# EAGLE library part HD44780_LCD (library BW-Active)
Character LCD based on HD44780 chip
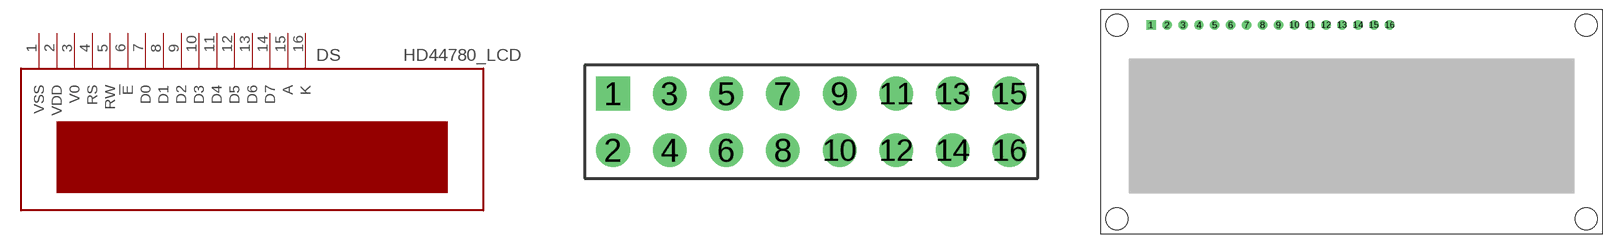
[diagram p39: symbol with the pads of 2X8PIN; footprints 2X8PIN, HD44780_LCD]

Designator prefix DS

## HD44780_LCD-CON  [2X8PIN]
1  VSS
2  VDD
3  V0
4  RS
5  RW
6  !E
7  D0
8  D1
9  D2
10  D3
11  D4
12  D5
13  D6
14  D7
15  A
16  K

## HD44780_LCD  [HD44780_LCD]
Pads as for 2X8PIN

## Footprint 2X8PIN (pad centres in mm)
drill 1 square: 1 -8.89,1.27
drill 1: 2 -8.89,-1.27; 3 -6.35,1.27; 4 -6.35,-1.27; 5 -3.81,1.27; 6 -3.81,-1.27; 7 -1.27,1.27; 8 -1.27,-1.27; 9 1.27,1.27; 10 1.27,-1.27; 11 3.81,1.27; 12 3.81,-1.27; 13 6.35,1.27; 14 6.35,-1.27; 15 8.89,1.27; 16 8.89,-1.27

## Footprint HD44780_LCD (pad centres in mm)
drill 1 square: 1 -32,15.5
drill 1: 2 -29.46,15.5; 3 -26.92,15.5; 4 -24.38,15.5; 5 -21.84,15.5; 6 -19.3,15.5; 7 -16.76,15.5; 8 -14.22,15.5; 9 -11.68,15.5; 10 -9.14,15.5; 11 -6.6,15.5; 12 -4.06,15.5; 13 -1.52,15.5; 14 1.02,15.5; 15 3.56,15.5; 16 6.1,15.5
hole 3.5 at -37.5,15.5
hole 3.5 at 37.5,15.5
hole 3.5 at 37.5,-15.5
hole 3.5 at -37.5,-15.5